# Altium integrated library AP7331-28WG-7.IntLib: 1 symbol
Pins are listed as number, name and electrical type; pins without a type are passive.

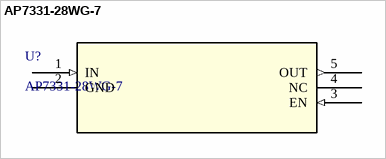
[diagram p0: symbol AP7331-28WG-7]

## AP7331-28WG-7
designator U?
Description; Manufacturer_Name: Diodes Inc; Copyright: Copyright (C) 2026 Ultra Librarian. All rights reserved.; Manufacturer_Part_Number: AP7331-28WG-7; RefDes: RefDes; Type: Type
footprint SOT25_DIO
pins: 1 IN (in), 2 GND (power), 3 EN (in), 4 NC, 5 OUT (out)